# Altium schematic symbol library 74279266.SchLib: 1 symbol
Pins are listed as number, name and electrical type; pins without a type are passive.

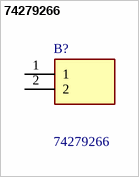
[diagram p0: symbol 74279266]

## 74279266
designator B?
WE-CBF Ferrite Bead 0603 1000Ohm 200mA Wurth WE-CBF Series +/-25% Ferrite Multilayer SMD Inductor, 0603 Case, 200mA dc 600m Rdc; Manufacturer_Name: Wurth Elektronik; Geometry.Height: 1mm; Mouser Part Number: 710-74279266; Mouser Price/Stock: https://www.mouser.co.uk/ProductDetail/Wurth-Elektronik/74279266?qs=wElim4iM2phvO%252B60rsJRMg%3D%3D; Manufacturer_Part_Number: 74279266; Datasheet Link: *
footprint BEADC1608X100N
pins: 1, 2